# Altium footprint library Crystals.PcbLib: 3 footprints
Each footprint in its own frame and in the unit in brackets; x right, y up, seen from the top. Pads: shape width x height; smd on the part's side, far side on the other; paste and mask are expansions set on the pad; w line width, h text height; cw(c..) or ccw(c..) is an arc to the next point about the centre after c.
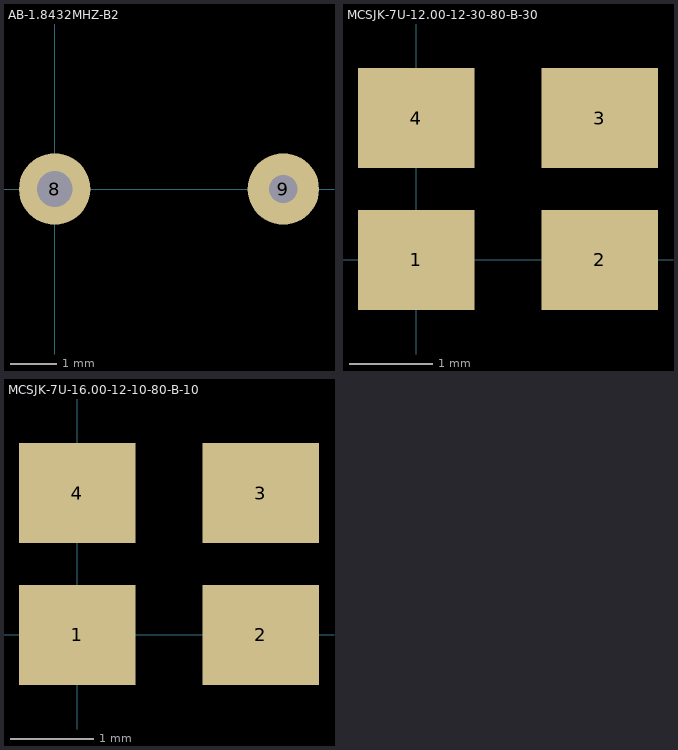
[diagram p0: the footprints below, top view; thin cyan lines are the x and y axes]

## AB-1.8432MHZ-B2 [mil] "Crystal 1.8432MHz"
pads (2):
  round 60 hole 30: 8(0,0)
  round 60 hole 23.62: 9(192.13,0)

## MCSJK-7U-12.00-12-30-80-B-30 [mm]
pads (4):
  rect 1.4x1.2 smd: 1(0,0) 2(2.2,0) 3(2.2,1.7) 4(0,1.7)
3D body "User Library-ASE_series _ABRACON.step": height 1.2, standoff 0, extent -0.5,-0.4 2.7,2.1

## MCSJK-7U-16.00-12-10-80-B-10 [mm]
pads (4):
  rect 1.4x1.2 smd: 1(0,0) 2(2.2,0) 3(2.2,1.7) 4(0,1.7)
3D body "User Library-ASE_series _ABRACON.step": height 1.2, standoff 0, extent -0.5,-0.4 2.7,2.1